# Altium footprint library SparkFun-Connectors.PCBLIB: 344 footprints (part 13 of 22)
Each footprint in its own frame and in the unit in brackets; x right, y up, seen from the top. Pads: shape width x height; smd on the part's side, far side on the other; paste and mask are expansions set on the pad; w line width, h text height; cw(c..) or ccw(c..) is an arc to the next point about the centre after c.
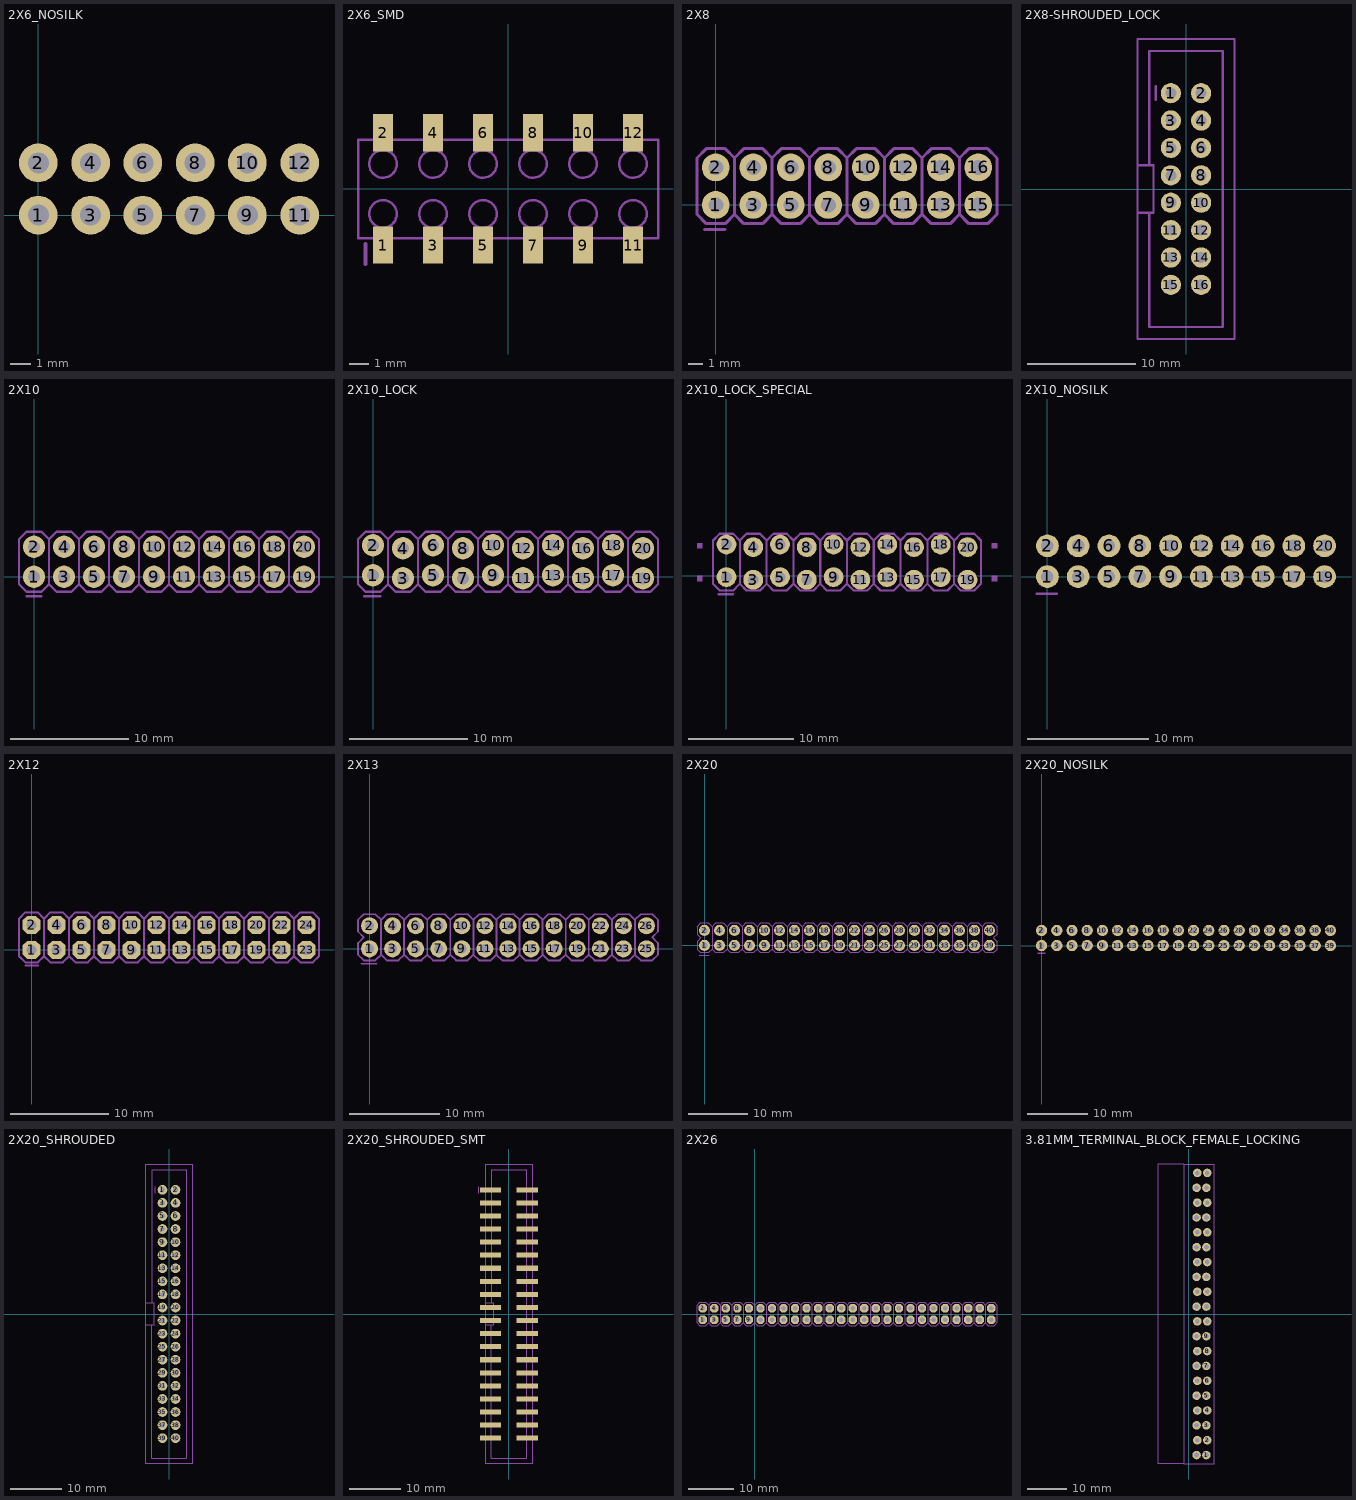
[diagram p12: the footprints below, top view; thin cyan lines are the x and y axes]

## 2X6_NOSILK [mil]
pads (12):
  round 74 / inner round 60 / far side round 74 hole 40: 1(0,0) 2(0,100) 3(100,0) 4(100,100) 5(200,0) 6(200,100) 7(300,0) 8(300,100) 9(400,0) 10(400,100) 11(500,0) 12(500,100)
Mechanical 8:
  region: -10,-10 -10,10 10,10 10,-10
  region: -10,90 -10,110 10,110 10,90
  region: 90,90 90,110 110,110 110,90
  region: 90,-10 90,10 110,10 110,-10
  region: 190,90 190,110 210,110 210,90
  region: 190,-10 190,10 210,10 210,-10
  region: 290,90 290,110 310,110 310,90
  region: 390,90 390,110 410,110 410,90
  region: 490,90 490,110 510,110 510,90
  region: 290,-10 290,10 310,10 310,-10
  region: 390,-10 390,10 410,10 410,-10
  region: 490,-10 490,10 510,10 510,-10

## 2X6_SMD [mil]
pads (12):
  rect 40.16x74.8 smd: 1(-250,-112.2) 2(-250,112.2) 3(-150,-112.2) 4(-150,112.2) 5(-50,-112.2) 6(-50,112.2) 7(50,-112.2) 8(50,112.2) 9(150,-112.2) 10(150,112.2) 11(250,-112.2) 12(250,112.2)
Mechanical 8:
  circle w5: c-150,50 r27.56
  circle w5: c-250,50 r27.56
  circle w5: c-250,-50 r27.56
  circle w5: c-150,-50 r27.56
  circle w5: c-50,-50 r27.56
  circle w5: c-50,50 r27.56
  circle w5: c50,-50 r27.56
  circle w5: c50,50 r27.56
  circle w5: c150,-50 r27.56
  circle w5: c150,50 r27.56
  circle w5: c250,-50 r27.56
  circle w5: c250,50 r27.56
  region: -161.81,100.39 -161.81,131.89 -138.19,131.89 -138.19,100.39
  region: -261.81,100.39 -261.81,131.89 -238.19,131.89 -238.19,100.39
  region: -61.81,100.39 -61.81,131.89 -38.19,131.89 -38.19,100.39
  region: -238.19,-100.39 -238.19,-131.89 -261.81,-131.89 -261.81,-100.39
  region: -138.19,-100.39 -138.19,-131.89 -161.81,-131.89 -161.81,-100.39
  region: -38.19,-100.39 -38.19,-131.89 -61.81,-131.89 -61.81,-100.39
  region: 38.19,100.39 38.19,131.89 61.81,131.89 61.81,100.39
  region: 61.81,-100.39 61.81,-131.89 38.19,-131.89 38.19,-100.39
  region: 138.19,100.39 138.19,131.89 161.81,131.89 161.81,100.39
  region: 161.81,-100.39 161.81,-131.89 138.19,-131.89 138.19,-100.39
  region: 238.19,100.39 238.19,131.89 261.81,131.89 261.81,100.39
  region: 261.81,-100.39 261.81,-131.89 238.19,-131.89 238.19,-100.39
  lines w5: -300,-98.43 -300,98.43 300,98.43 300,-98.43 -300,-98.43
Mechanical 22:
  lines w8: -285,-150 -285,-110

## 2X8 [mil]
pads (16):
  round 74 / inner round 60 / far side round 74 hole 40: 1(0,0) 2(0,100) 3(100,0) 4(100,100) 5(200,0) 6(200,100) 7(300,0) 8(300,100) 9(400,0) 10(400,100) 11(500,0) 12(500,100) 13(600,0) 14(600,100) 15(700,0) 16(700,100)
Mechanical 8:
  region: -10,-10 -10,10 10,10 10,-10
  region: -10,90 -10,110 10,110 10,90
  region: 90,90 90,110 110,110 110,90
  region: 90,-10 90,10 110,10 110,-10
  region: 190,90 190,110 210,110 210,90
  region: 190,-10 190,10 210,10 210,-10
  region: 290,90 290,110 310,110 310,90
  region: 390,90 390,110 410,110 410,90
  region: 490,90 490,110 510,110 510,90
  region: 290,-10 290,10 310,10 310,-10
  region: 390,-10 390,10 410,10 410,-10
  region: 490,-10 490,10 510,10 510,-10
  region: 590,90 590,110 610,110 610,90
  region: 590,-10 590,10 610,10 610,-10
  region: 690,90 690,110 710,110 710,90
  region: 690,-10 690,10 710,10 710,-10
Mechanical 22:
  lines w8: -30,-65 25,-65 ; 50,-25 25,-50 -25,-50 -50,-25 -50,125 -25,150 25,150 50,125 ; 50,-25 75,-50 125,-50 150,-25 ; 50,-25 50,125 ; 50,125 75,150 125,150 150,125 ; 150,-25 175,-50 225,-50 250,-25 ; 150,-25 150,125 ; 150,125 175,150 225,150 250,125 ; 250,-25 275,-50 325,-50 350,-25 ; 250,-25 250,125 ; 250,125 275,150 325,150 350,125 ; 350,-25 375,-50 425,-50 450,-25 ; 350,-25 350,125 ; 350,125 375,150 425,150 450,125 ; 450,-25 475,-50 525,-50 550,-25 ; 450,-25 450,125 ; 450,125 475,150 525,150 550,125 ; 550,-25 575,-50 625,-50 650,-25 ; 550,-25 550,125 ; 550,125 575,150 625,150 650,125 ; 650,-25 675,-50 725,-50 750,-25 750,125 725,150 675,150 650,125 ; 650,-25 650,125
Mechanical 23:
  lines w8: -30,-65 25,-65

## 2X8-SHROUDED_LOCK [mil]
pads (16):
  round 74 / inner round 60 / far side round 74 hole 40: 1(-55,350) 2(55,350) 3(-55,250) 4(55,250) 5(-55,150) 6(55,150) 7(-55,50) 8(55,50) 9(-55,-50) 10(55,-50) 11(-55,-150) 12(55,-150) 13(-55,-250) 14(55,-250) 15(-55,-350) 16(55,-350)
Mechanical 8:
  region: -60,360 -40,360 -40,340 -60,340
  region: 40,360 60,360 60,340 40,340
  region: 40,260 60,260 60,240 40,240
  region: -60,260 -40,260 -40,240 -60,240
  region: 40,160 60,160 60,140 40,140
  region: -60,160 -40,160 -40,140 -60,140
  region: 40,60 60,60 60,40 40,40
  region: -60,60 -40,60 -40,40 -60,40
  region: 40,-40 60,-40 60,-60 40,-60
  region: -60,-40 -40,-40 -40,-60 -60,-60
  region: -60,60 -40,60 -40,40 -60,40
  region: 40,60 60,60 60,40 40,40
  region: 40,-140 60,-140 60,-160 40,-160
  region: -60,-140 -40,-140 -40,-160 -60,-160
  region: 40,-240 60,-240 60,-260 40,-260
  region: -60,-240 -40,-240 -40,-260 -60,-260
  region: 40,-340 60,-340 60,-360 40,-360
  region: -60,-340 -40,-340 -40,-360 -60,-360
  lines w8: -133.86,-86.61 -133.86,-504.33 133.86,-504.33 133.86,504.33 -133.86,504.33 -133.86,86.61
Mechanical 22:
  lines w8: -109.25,325 -109.25,375 ; 173.23,547.64 -177.17,547.64 -177.17,86.61 ; 177.17,547.64 177.17,-547.64 -177.17,-547.64 -177.17,-86.61 ; -177.17,-86.61 -177.17,86.61 ; -177.17,-86.61 -118.11,-86.61 -118.11,86.61 -177.17,86.61
Mechanical 23:
  lines w8: -110.75,325 -110.75,375

## 2X10 [mil]
pads (20):
  round 74 / inner round 60 / far side round 74 hole 40: 1(0,0) 2(0,100) 3(100,0) 4(100,100) 5(200,0) 6(200,100) 7(300,0) 8(300,100) 9(400,0) 10(400,100) 11(500,0) 12(500,100) 13(600,0) 14(600,100) 15(700,0) 16(700,100) 17(800,0) 18(800,100) 19(900,0) 20(900,100)
Mechanical 8:
  region: -10,-10 -10,10 10,10 10,-10
  region: -10,90 -10,110 10,110 10,90
  region: 90,90 90,110 110,110 110,90
  region: 90,-10 90,10 110,10 110,-10
  region: 190,90 190,110 210,110 210,90
  region: 190,-10 190,10 210,10 210,-10
  region: 290,90 290,110 310,110 310,90
  region: 390,90 390,110 410,110 410,90
  region: 490,90 490,110 510,110 510,90
  region: 290,-10 290,10 310,10 310,-10
  region: 390,-10 390,10 410,10 410,-10
  region: 490,-10 490,10 510,10 510,-10
  region: 590,90 590,110 610,110 610,90
  region: 590,-10 590,10 610,10 610,-10
  region: 690,90 690,110 710,110 710,90
  region: 690,-10 690,10 710,10 710,-10
  region: 790,90 790,110 810,110 810,90
  region: 790,-10 790,10 810,10 810,-10
  region: 890,90 890,110 910,110 910,90
  region: 890,-10 890,10 910,10 910,-10
Mechanical 22:
  lines w8: -25,-65 25,-65 ; 50,-25 25,-50 -25,-50 -50,-25 -50,125 -25,150 25,150 50,125 ; 50,-25 75,-50 125,-50 150,-25 ; 50,-25 50,125 ; 50,125 75,150 125,150 150,125 ; 150,-25 175,-50 225,-50 250,-25 ; 150,-25 150,125 ; 150,125 175,150 225,150 250,125 ; 250,-25 275,-50 325,-50 350,-25 ; 250,-25 250,125 ; 250,125 275,150 325,150 350,125 ; 350,-25 375,-50 425,-50 450,-25 ; 350,-25 350,125 ; 350,125 375,150 425,150 450,125 ; 450,-25 475,-50 525,-50 550,-25 ; 450,-25 450,125 ; 450,125 475,150 525,150 550,125 ; 550,-25 575,-50 625,-50 650,-25 ; 550,-25 550,125 ; 550,125 575,150 625,150 650,125 ; 650,-25 675,-50 725,-50 750,-25 ; 650,-25 650,125 ; 650,125 675,150 725,150 750,125 ; 750,-25 775,-50 825,-50 850,-25 ; 750,-25 750,125 ; 750,125 775,150 825,150 850,125 ; 850,-25 850,125 ; 850,-25 875,-50 925,-50 950,-25 950,125 925,150 875,150 850,125
Mechanical 23:
  lines w8: -25,-65 25,-65

## 2X10_LOCK [mil]
pads (20):
  round 74 / inner round 60 / far side round 74 hole 40: 1(0,5) 2(0,105) 3(100,-5) 4(100,95) 5(200,5) 6(200,105) 7(300,-5) 8(300,95) 9(400,5) 10(400,105) 11(500,-5) 12(500,95) 13(600,5) 14(600,105) 15(700,-5) 16(700,95) 17(800,5) 18(800,105) 19(900,-5) 20(900,95)
Mechanical 8:
  region: -10,-10 -10,10 10,10 10,-10
  region: -10,90 -10,110 10,110 10,90
  region: 90,90 90,110 110,110 110,90
  region: 90,-10 90,10 110,10 110,-10
  region: 190,90 190,110 210,110 210,90
  region: 190,-10 190,10 210,10 210,-10
  region: 290,90 290,110 310,110 310,90
  region: 390,90 390,110 410,110 410,90
  region: 490,90 490,110 510,110 510,90
  region: 290,-10 290,10 310,10 310,-10
  region: 390,-10 390,10 410,10 410,-10
  region: 490,-10 490,10 510,10 510,-10
  region: 590,90 590,110 610,110 610,90
  region: 590,-10 590,10 610,10 610,-10
  region: 690,90 690,110 710,110 710,90
  region: 690,-10 690,10 710,10 710,-10
  region: 790,90 790,110 810,110 810,90
  region: 790,-10 790,10 810,10 810,-10
  region: 890,90 890,110 910,110 910,90
  region: 890,-10 890,10 910,10 910,-10
Mechanical 22:
  lines w8: -30,-65 25,-65 ; 50,-25 25,-50 -25,-50 -50,-25 -50,125 -25,150 25,150 50,125 ; 50,-25 75,-50 125,-50 150,-25 ; 50,-25 50,125 ; 50,125 75,150 125,150 150,125 ; 150,-25 175,-50 225,-50 250,-25 ; 150,-25 150,125 ; 150,125 175,150 225,150 250,125 ; 250,-25 275,-50 325,-50 350,-25 ; 250,-25 250,125 ; 250,125 275,150 325,150 350,125 ; 350,-25 375,-50 425,-50 450,-25 ; 350,-25 350,125 ; 350,125 375,150 425,150 450,125 ; 450,-25 475,-50 525,-50 550,-25 ; 450,-25 450,125 ; 450,125 475,150 525,150 550,125 ; 550,-25 575,-50 625,-50 650,-25 ; 550,-25 550,125 ; 550,125 575,150 625,150 650,125 ; 650,-25 675,-50 725,-50 750,-25 ; 650,-25 650,125 ; 650,125 675,150 725,150 750,125 ; 750,-25 775,-50 825,-50 850,-25 ; 750,-25 750,125 ; 750,125 775,150 825,150 850,125 ; 850,-25 850,125 ; 850,-25 875,-50 925,-50 950,-25 950,125 925,150 875,150 850,125
Mechanical 23:
  lines w8: -30,-65 25,-65

## 2X10_LOCK_SPECIAL [mil]
pads (20):
  round 74 / inner round 60 / far side round 74 hole 40: 1(0,-6) 2(0,116) 3(100,-16) 4(100,106) 5(200,-6) 6(200,116) 7(300,-16) 8(300,106) 9(400,-6) 10(400,116) 11(500,-16) 12(500,106) 13(600,-6) 14(600,116) 15(700,-16) 16(700,106) 17(800,-6) 18(800,116) 19(900,-16) 20(900,106)
Mechanical 8:
  region: -10,-21 -10,-1 10,-1 10,-21
  region: -10,101 -10,121 10,121 10,101
  region: 90,101 90,121 110,121 110,101
  region: 90,-21 90,-1 110,-1 110,-21
  region: 190,101 190,121 210,121 210,101
  region: 190,-21 190,-1 210,-1 210,-21
  region: 290,101 290,121 310,121 310,101
  region: 390,101 390,121 410,121 410,101
  region: 490,101 490,121 510,121 510,101
  region: 290,-21 290,-1 310,-1 310,-21
  region: 390,-21 390,-1 410,-1 410,-21
  region: 490,-21 490,-1 510,-1 510,-21
  region: 590,101 590,121 610,121 610,101
  region: 590,-21 590,-1 610,-1 610,-21
  region: 690,101 690,121 710,121 710,101
  region: 690,-21 690,-1 710,-1 710,-21
  region: 790,101 790,121 810,121 810,101
  region: 790,-21 790,-1 810,-1 810,-21
  region: 890,101 890,121 910,121 910,101
  region: 890,-21 890,-1 910,-1 910,-21
  region: -110,101 -110,121 -90,121 -90,101
  region: -110,-21 -110,-1 -90,-1 -90,-21
  region: 990,101 990,121 1010,121 1010,101
  region: 990,-21 990,-1 1010,-1 1010,-21
Mechanical 22:
  lines w8: -30,-70 25,-70 ; 50,-31 25,-56 -25,-56 -50,-31 -50,131 -25,156 25,156 50,131 ; 50,-31 75,-56 125,-56 150,-31 ; 50,-31 50,131 ; 50,131 75,156 125,156 150,131 ; 150,-31 175,-56 225,-56 250,-31 ; 150,-31 150,131 ; 150,131 175,156 225,156 250,131 ; 250,-31 275,-56 325,-56 350,-31 ; 250,-31 250,131 ; 250,131 275,156 325,156 350,131 ; 350,-31 375,-56 425,-56 450,-31 ; 350,-31 350,131 ; 350,131 375,156 425,156 450,131 ; 450,-31 475,-56 525,-56 550,-31 ; 450,-31 450,131 ; 450,131 475,156 525,156 550,131 ; 550,-31 575,-56 625,-56 650,-31 ; 550,-31 550,131 ; 550,131 575,156 625,156 650,131 ; 650,-31 675,-56 725,-56 750,-31 ; 650,-31 650,131 ; 650,131 675,156 725,156 750,131 ; 750,-31 775,-56 825,-56 850,-31 ; 750,-31 750,131 ; 750,131 775,156 825,156 850,131 ; 850,-31 850,131 ; 850,-31 875,-56 925,-56 950,-31 950,131 925,156 875,156 850,131
Mechanical 23:
  lines w8: -30,-70 25,-70

## 2X10_NOSILK [mil]
pads (20):
  round 74 / inner round 60 / far side round 74 hole 40: 1(0,0) 2(0,100) 3(100,0) 4(100,100) 5(200,0) 6(200,100) 7(300,0) 8(300,100) 9(400,0) 10(400,100) 11(500,0) 12(500,100) 13(600,0) 14(600,100) 15(700,0) 16(700,100) 17(800,0) 18(800,100) 19(900,0) 20(900,100)
Mechanical 8:
  region: -10,-10 -10,10 10,10 10,-10
  region: -10,90 -10,110 10,110 10,90
  region: 90,90 90,110 110,110 110,90
  region: 90,-10 90,10 110,10 110,-10
  region: 190,90 190,110 210,110 210,90
  region: 190,-10 190,10 210,10 210,-10
  region: 290,90 290,110 310,110 310,90
  region: 390,90 390,110 410,110 410,90
  region: 490,90 490,110 510,110 510,90
  region: 290,-10 290,10 310,10 310,-10
  region: 390,-10 390,10 410,10 410,-10
  region: 490,-10 490,10 510,10 510,-10
  region: 590,90 590,110 610,110 610,90
  region: 590,-10 590,10 610,10 610,-10
  region: 690,90 690,110 710,110 710,90
  region: 690,-10 690,10 710,10 710,-10
  region: 790,90 790,110 810,110 810,90
  region: 790,-10 790,10 810,10 810,-10
  region: 890,90 890,110 910,110 910,90
  region: 890,-10 890,10 910,10 910,-10
  lines w8: -35,-55 30,-55
Mechanical 9:
  lines w8: -35,-55 30,-55

## 2X12 [mil]
pads (24):
  oct 71.65x71.65 / inner oct 60x60 / far side oct 71.65x71.65 hole 40: 1(0,0) 2(0,100) 3(100,0) 4(100,100) 5(200,0) 6(200,100) 7(300,0) 8(300,100) 9(400,0) 10(400,100) 11(500,0) 12(500,100) 13(600,0) 14(600,100) 15(700,0) 16(700,100) 17(800,0) 18(800,100) 19(900,0) 20(900,100) 21(1000,0) 22(1000,100) 23(1100,0) 24(1100,100)
Mechanical 8:
  region: -10,-10 -10,10 10,10 10,-10
  region: -10,90 -10,110 10,110 10,90
  region: 90,90 90,110 110,110 110,90
  region: 90,-10 90,10 110,10 110,-10
  region: 190,90 190,110 210,110 210,90
  region: 190,-10 190,10 210,10 210,-10
  region: 290,-10 290,10 310,10 310,-10
  region: 290,90 290,110 310,110 310,90
  region: 390,90 390,110 410,110 410,90
  region: 390,-10 390,10 410,10 410,-10
  region: 490,90 490,110 510,110 510,90
  region: 490,-10 490,10 510,10 510,-10
  region: 590,-10 590,10 610,10 610,-10
  region: 590,90 590,110 610,110 610,90
  region: 690,90 690,110 710,110 710,90
  region: 690,-10 690,10 710,10 710,-10
  region: 790,90 790,110 810,110 810,90
  region: 790,-10 790,10 810,10 810,-10
  region: 890,-10 890,10 910,10 910,-10
  region: 890,90 890,110 910,110 910,90
  region: 990,90 990,110 1010,110 1010,90
  region: 990,-10 990,10 1010,10 1010,-10
  region: 1090,90 1090,110 1110,110 1110,90
  region: 1090,-10 1090,10 1110,10 1110,-10
Mechanical 22:
  lines w8: -25,-63.19 25,-63.19 ; 50,-25 25,-50 -25,-50 -50,-25 -50,125 -25,150 25,150 50,125 ; 50,-25 75,-50 125,-50 150,-25 ; 50,-25 50,125 ; 50,125 75,150 125,150 150,125 ; 150,-25 175,-50 225,-50 250,-25 ; 150,-25 150,125 ; 150,125 175,150 225,150 250,125 ; 250,-25 275,-50 325,-50 350,-25 ; 250,-25 250,125 ; 250,125 275,150 325,150 350,125 ; 350,-25 375,-50 425,-50 450,-25 ; 350,-25 350,125 ; 350,125 375,150 425,150 450,125 ; 450,-25 475,-50 525,-50 550,-25 ; 450,-25 450,125 ; 450,125 475,150 525,150 550,125 ; 550,-25 575,-50 625,-50 650,-25 ; 550,-25 550,125 ; 550,125 575,150 625,150 650,125 ; 650,-25 675,-50 725,-50 750,-25 ; 650,-25 650,125 ; 650,125 675,150 725,150 750,125 ; 750,-25 775,-50 825,-50 850,-25 ; 750,-25 750,125 ; 750,125 775,150 825,150 850,125 ; 850,-25 875,-50 925,-50 950,-25 ; 850,-25 850,125 ; 850,125 875,150 925,150 950,125 ; 950,-25 975,-50 1025,-50 1050,-25 ; 950,-25 950,125 ; 950,125 975,150 1025,150 1050,125 ; 1050,-25 1075,-50 1125,-50 1150,-25 1150,125 1125,150 1075,150 1050,125 ; 1050,-25 1050,125

## 2X13 [mil]
pads (26):
  round 74 / inner round 60 / far side round 74 hole 40: 1(0,0) 2(0,100) 3(100,0) 4(100,100) 5(200,0) 6(200,100) 7(300,0) 8(300,100) 9(400,0) 10(400,100) 11(500,0) 12(500,100) 13(600,0) 14(600,100) 15(700,0) 16(700,100) 17(800,0) 18(800,100) 19(900,0) 20(900,100) 21(1000,0) 22(1000,100) 23(1100,0) 24(1100,100) 25(1200,0) 26(1200,100)
Mechanical 8:
  region: 590,-10 590,10 610,10 610,-10
  region: 490,-10 490,10 510,10 510,-10
  region: 390,-10 390,10 410,10 410,-10
  region: 290,-10 290,10 310,10 310,-10
  region: 190,-10 190,10 210,10 210,-10
  region: 90,-10 90,10 110,10 110,-10
  region: -10,-10 -10,10 10,10 10,-10
  region: 1190,-10 1190,10 1210,10 1210,-10
  region: 1090,-10 1090,10 1110,10 1110,-10
  region: 990,-10 990,10 1010,10 1010,-10
  region: 890,-10 890,10 910,10 910,-10
  region: 790,-10 790,10 810,10 810,-10
  region: 690,-10 690,10 710,10 710,-10
  region: 610,110 610,90 590,90 590,110
  region: 710,110 710,90 690,90 690,110
  region: 810,110 810,90 790,90 790,110
  region: 910,110 910,90 890,90 890,110
  region: 1010,110 1010,90 990,90 990,110
  region: 1110,110 1110,90 1090,90 1090,110
  region: 1210,110 1210,90 1190,90 1190,110
  region: 10,110 10,90 -10,90 -10,110
  region: 110,110 110,90 90,90 90,110
  region: 210,110 210,90 190,90 190,110
  region: 310,110 310,90 290,90 290,110
  region: 410,110 410,90 390,90 390,110
  region: 510,110 510,90 490,90 490,110
Mechanical 22:
  lines w8: -35,-65 30,-65 ; 50,-25 25,-50 -25,-50 -50,-25 -50,25 -25,50 -50,75 -50,125 -25,150 25,150 50,125 ; 50,-25 75,-50 125,-50 150,-25 ; 50,-25 50,125 ; 50,125 75,150 125,150 150,125 ; 150,-25 175,-50 225,-50 250,-25 ; 150,-25 150,125 ; 150,125 175,150 225,150 250,125 ; 250,-25 275,-50 325,-50 350,-25 ; 250,-25 250,125 ; 250,125 275,150 325,150 350,125 ; 350,-25 375,-50 425,-50 450,-25 ; 350,-25 350,125 ; 350,125 375,150 425,150 450,125 ; 450,-25 475,-50 525,-50 550,-25 ; 450,-25 450,125 ; 450,125 475,150 525,150 550,125 ; 550,-25 575,-50 625,-50 650,-25 ; 550,-25 550,125 ; 550,125 575,150 625,150 650,125 ; 650,-25 675,-50 725,-50 750,-25 ; 650,-25 650,125 ; 650,125 675,150 725,150 750,125 ; 750,-25 775,-50 825,-50 850,-25 ; 750,-25 750,125 ; 750,125 775,150 825,150 850,125 ; 850,-25 875,-50 925,-50 950,-25 ; 850,-25 850,125 ; 850,125 875,150 925,150 950,125 ; 950,-25 975,-50 1025,-50 1050,-25 ; 950,-25 950,125 ; 950,125 975,150 1025,150 1050,125 ; 1050,-25 1075,-50 1125,-50 1150,-25 ; 1050,-25 1050,125 ; 1050,125 1075,150 1125,150 1150,125 ; 1150,-25 1175,-50 1225,-50 1250,-25 1250,25 1225,50 1250,75 1250,125 1225,150 1175,150 1150,125 ; 1150,-25 1150,125
Mechanical 23:
  lines w8: -35,-65 30,-65

## 2X20 [mil]
pads (40):
  round 74 / inner round 60 / far side round 74 hole 40: 1(0,0) 2(0,100) 3(100,0) 4(100,100) 5(200,0) 6(200,100) 7(300,0) 8(300,100) 9(400,0) 10(400,100) 11(500,0) 12(500,100) 13(600,0) 14(600,100) 15(700,0) 16(700,100) 17(800,0) 18(800,100) 19(900,0) 20(900,100) 21(1000,0) 22(1000,100) 23(1100,0) 24(1100,100) 25(1200,0) 26(1200,100) 27(1300,0) 28(1300,100) 29(1400,0) 30(1400,100) 31(1500,0) 32(1500,100) 33(1600,0) 34(1600,100) 35(1700,0) 36(1700,100) 37(1800,0) 38(1800,100) 39(1900,0) 40(1900,100)
Mechanical 8:
  drawing of 40 lines, arcs and shapes, not listed
Mechanical 22:
  lines w8: -35,-65 30,-65 ; 50,-25 25,-50 -25,-50 -50,-25 -50,25 -25,50 -50,75 -50,125 -25,150 25,150 50,125 ; 50,-25 75,-50 125,-50 150,-25 ; 50,-25 50,125 ; 50,125 75,150 125,150 150,125 ; 150,-25 175,-50 225,-50 250,-25 ; 150,-25 150,125 ; 150,125 175,150 225,150 250,125 ; 250,-25 275,-50 325,-50 350,-25 ; 250,-25 250,125 ; 250,125 275,150 325,150 350,125 ; 350,-25 375,-50 425,-50 450,-25 ; 350,-25 350,125 ; 350,125 375,150 425,150 450,125 ; 450,-25 475,-50 525,-50 550,-25 ; 450,-25 450,125 ; 450,125 475,150 525,150 550,125 ; 550,-25 575,-50 625,-50 650,-25 ; 550,-25 550,125 ; 550,125 575,150 625,150 650,125 ; 650,-25 675,-50 725,-50 750,-25 ; 650,-25 650,125 ; 650,125 675,150 725,150 750,125 ; 750,-25 775,-50 825,-50 850,-25 ; 750,-25 750,125 ; 750,125 775,150 825,150 850,125 ; 850,-25 875,-50 925,-50 950,-25 ; 850,-25 850,125 ; 850,125 875,150 925,150 950,125 ; 950,-25 975,-50 1025,-50 1050,-25 ; 950,-25 950,125 ; 950,125 975,150 1025,150 1050,125 ; 1050,-25 1075,-50 1125,-50 1150,-25 ; 1050,-25 1050,125 ; 1050,125 1075,150 1125,150 1150,125 ; 1150,-25 1175,-50 1225,-50 1250,-25 ; 1150,-25 1150,125 ; 1150,125 1175,150 1225,150 1250,125 ; 1250,-25 1250,125 ; 1250,-25 1275,-50 1325,-50 1350,-25 ; 1250,125 1275,150 1325,150 1350,125 ; 1350,-25 1350,125 ; 1350,-25 1375,-50 1425,-50 1450,-25 ; 1350,125 1375,150 1425,150 1450,125 ; 1450,-25 1450,125 ; 1450,-25 1475,-50 1525,-50 1550,-25 ; 1450,125 1475,150 1525,150 1550,125 ; 1550,-25 1550,125 ; 1550,-25 1575,-50 1625,-50 1650,-25 ; 1550,125 1575,150 1625,150 1650,125 ; 1650,-25 1650,125 ; 1650,-25 1675,-50 1725,-50 1750,-25 ; 1650,125 1675,150 1725,150 1750,125 ; 1750,-25 1750,125 ; 1750,-25 1775,-50 1825,-50 1850,-25 ; 1750,125 1775,150 1825,150 1850,125 ; 1850,-25 1850,125 ; 1850,-25 1875,-50 1925,-50 1950,-25 1950,25 1925,50 1950,75 1950,125 1925,150 1875,150 1850,125
Mechanical 23:
  lines w8: -35,-65 30,-65

## 2X20_NOSILK [mil]
pads (40):
  round 74 / inner round 60 / far side round 74 hole 40: 1(0,0) 2(0,100) 3(100,0) 4(100,100) 5(200,0) 6(200,100) 7(300,0) 8(300,100) 9(400,0) 10(400,100) 11(500,0) 12(500,100) 13(600,0) 14(600,100) 15(700,0) 16(700,100) 17(800,0) 18(800,100) 19(900,0) 20(900,100) 21(1000,0) 22(1000,100) 23(1100,0) 24(1100,100) 25(1200,0) 26(1200,100) 27(1300,0) 28(1300,100) 29(1400,0) 30(1400,100) 31(1500,0) 32(1500,100) 33(1600,0) 34(1600,100) 35(1700,0) 36(1700,100) 37(1800,0) 38(1800,100) 39(1900,0) 40(1900,100)
Mechanical 8:
  drawing of 47 lines, arcs and shapes, not listed
Mechanical 9:
  lines w8: -25,-50 25,-50

## 2X20_SHROUDED [mil]
pads (40):
  round 74 / inner round 60 / far side round 74 hole 40: 1(-50,950) 2(50,950) 3(-50,850) 4(50,850) 5(-50,750) 6(50,750) 7(-50,650) 8(50,650) 9(-50,550) 10(50,550) 11(-50,450) 12(50,450) 13(-50,350) 14(50,350) 15(-50,250) 16(50,250) 17(-50,150) 18(50,150) 19(-50,50) 20(50,50) 21(-50,-50) 22(50,-50) 23(-50,-150) 24(50,-150) 25(-50,-250) 26(50,-250) 27(-50,-350) 28(50,-350) 29(-50,-450) 30(50,-450) 31(-50,-550) 32(50,-550) 33(-50,-650) 34(50,-650) 35(-50,-750) 36(50,-750) 37(-50,-850) 38(50,-850) 39(-50,-950) 40(50,-950)
Mechanical 8:
  drawing of 51 lines, arcs and shapes, not listed
Mechanical 22:
  lines w8: -177.17,-86.61 -118.11,-86.61 -118.11,86.61 -177.17,86.61 ; -109.25,925 -109.25,975 ; 173.23,1147.64 -177.17,1147.64 -177.17,-1147.64 177.17,-1147.64 177.17,1147.64
Mechanical 23:
  lines w8: -110.75,925 -110.75,975

## 2X20_SHROUDED_SMT [mil]
pads (40):
  rect 163x39 smd: 1(-140.5,950) 2(140.5,950) 3(-140.5,850) 4(140.5,850) 5(-140.5,750) 6(140.5,750) 7(-140.5,650) 8(140.5,650) 9(-140.5,550) 10(140.5,550) 11(-140.5,450) 12(140.5,450) 13(-140.5,350) 14(140.5,350) 15(-140.5,250) 16(140.5,250) 17(-140.5,150) 18(140.5,150) 19(-140.5,50) 20(140.5,50) 21(-140.5,-50) 22(140.5,-50) 23(-140.5,-150) 24(140.5,-150) 25(-140.5,-250) 26(140.5,-250) 27(-140.5,-350) 28(140.5,-350) 29(-140.5,-450) 30(140.5,-450) 31(-140.5,-550) 32(140.5,-550) 33(-140.5,-650) 34(140.5,-650) 35(-140.5,-750) 36(140.5,-750) 37(-140.5,-850) 38(140.5,-850) 39(-140.5,-950) 40(140.5,-950)
Mechanical 8:
  lines w8: -133.86,-86.61 -133.86,-1104.33 133.86,-1104.33 133.86,1104.33 -133.86,1104.33 -133.86,86.61
Mechanical 22:
  lines w8: -234.25,925 -234.25,975 ; -177.17,-86.61 -118.11,-86.61 -118.11,86.61 -177.17,86.61 ; 173.23,1147.64 -177.17,1147.64 -177.17,-1147.64 177.17,-1147.64 177.17,1147.64
Mechanical 23:
  lines w8: -235.75,925 -235.75,975

## 2X26 [mil]
pads (52):
  oct 71.65x71.65 / inner oct 60x60 / far side oct 71.65x71.65 hole 40: 1(-450,-50) 2(-450,50) 3(-350,-50) 4(-350,50) 5(-250,-50) 6(-250,50) 7(-150,-50) 8(-150,50) 9(-50,-50) 10(-50,50) 11(50,-50) 12(50,50) 13(150,-50) 14(150,50) 15(250,-50) 16(250,50) 17(350,-50) 18(350,50) 19(450,-50) 20(450,50) 21(550,-50) 22(550,50) 23(650,-50) 24(650,50) 25(750,-50) 26(750,50) 27(850,-50) 28(850,50) 29(950,-50) 30(950,50) 31(1050,-50) 32(1050,50) 33(1150,-50) 34(1150,50) 35(1250,-50) 36(1250,50) 37(1350,-50) 38(1350,50) 39(1450,-50) 40(1450,50) 41(1550,-50) 42(1550,50) 43(1650,-50) 44(1650,50) 45(1750,-50) 46(1750,50) 47(1850,-50) 48(1850,50) 49(1950,-50) 50(1950,50) 51(2050,-50) 52(2050,50)
Mechanical 8:
  drawing of 52 lines, arcs and shapes, not listed
Mechanical 22:
  drawing of 183 lines, arcs and shapes, not listed

## 3.81MM_TERMINAL_BLOCK_FEMALE_LOCKING [mil]
pads (40):
  round 86 / inner round 60 / far side round 86 hole 47.24: 1(178,-1424.95) 2(186,-1274.95) 3(178,-1124.95) 4(186,-974.95) 5(178,-824.95) 6(186,-674.95) 7(178,-524.95) 8(186,-374.95) 9(178,-224.95) 10(186,-74.95) 11(178,75.05) 12(186,225.05) 13(178,375.05) 14(186,525.05) 15(178,675.05) 16(186,825.05) 17(178,975.05) 18(186,1125.05) 19(178,1275.05) 20(186,1425.05) @1(78,-1424.95) @2(86,-1274.95) @3(78,-1124.95) @4(86,-974.95) @5(78,-824.95) @6(86,-674.95) @7(78,-524.95) @8(86,-374.95) @9(78,-224.95) @10(86,-74.95) @11(78,75.05) @12(86,225.05) @13(78,375.05) @14(86,525.05) @15(78,675.05) @16(86,825.05) @17(78,975.05) @18(86,1125.05) @19(78,1275.05) @20(86,1425.05)
Mechanical 8:
  drawing of 43 lines, arcs and shapes, not listed
Mechanical 22:
  lines w8: -50,-1515.55 -50,1515.55 257,1515.55 257,-1515.55 -50,-1515.55